# EAGLE library part LTC7106 (library Bits_library_eagle)
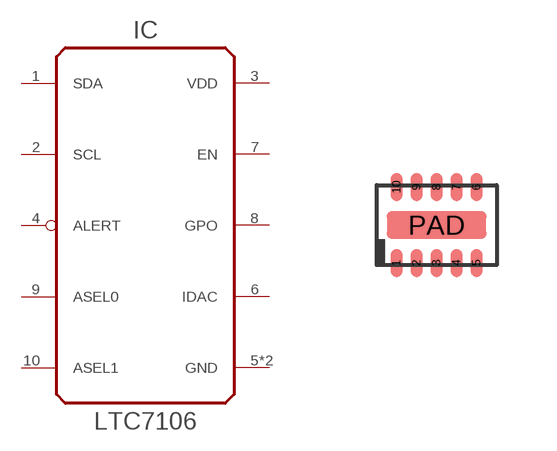
[diagram p68: symbol with the pads of TDFN-10_PAD_3X2; footprint TDFN-10_PAD_3X2]

Designator prefix IC

## LTC7106DFN10  [TDFN-10_PAD_3X2]
1  SDA
2  SCL
3  VDD  pwr
4  ALERT
5  GND  pwr
6  IDAC  pas
7  EN
8  GPO  pas
9  ASEL0
10  ASEL1
PAD  GND  pwr

## Footprint TDFN-10_PAD_3X2 (pad centres in mm)
smd 0.3 x 0.7: 1 -1,-0.95; 2 -0.5,-0.95; 3 0,-0.95; 4 0.5,-0.95; 5 1,-0.95; 6 1,0.95; 7 0.5,0.95; 8 0,0.95; 9 -0.5,0.95; 10 -1,0.95
smd 2.5 x 0.7: PAD 0,0